# Altium schematic symbol library LP2992.SchLib: 1 symbol
Pins are listed as number, name and electrical type; pins without a type are passive.

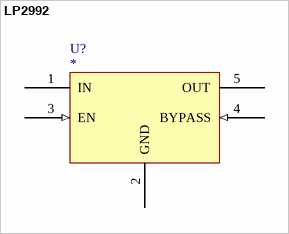
[diagram p0: symbol LP2992]

## LP2992
designator U?
pins: 1 IN (power), 2 GND (power), 3 EN (in), 4 BYPASS (in), 5 OUT (power)